# Altium integrated library MX25L3206EM2I-12G.IntLib: 1 symbol
Pins are listed as number, name and electrical type; pins without a type are passive.

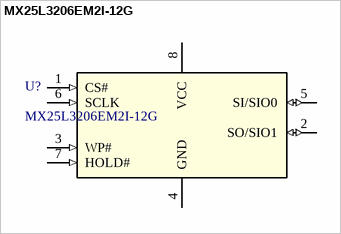
[diagram p0: symbol MX25L3206EM2I-12G]

## MX25L3206EM2I-12G
designator U?
Description; Manufacturer_Name: Macronix; Copyright: Copyright (C) 2025 Ultra Librarian. All rights reserved.; Manufacturer_Part_Number: MX25L3206EM2I-12G; RefDes: RefDes; Type: Type
footprint SOP8L_200MIL_6110-1406_MAC
pins: 1 CS# (in), 2 SO/SIO1 (io), 3 WP# (in), 4 GND (power), 5 SI/SIO0 (io), 6 SCLK (in), 7 HOLD# (in), 8 VCC (power)